# EAGLE library part ISO7221 (library mylib)
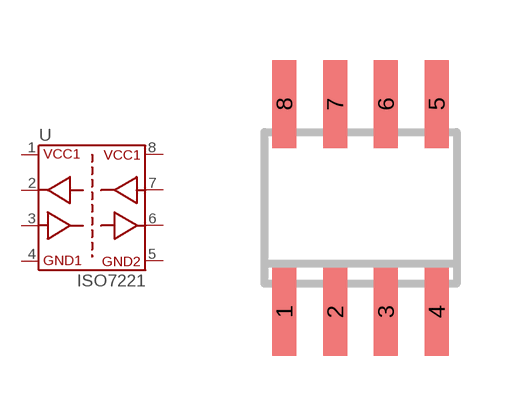
[diagram p16: symbol with the pads of SO8; footprint SO8]

Designator prefix -

## ISO7221  [SO8]
1  VCC1
2  OUTA
3  INB
4  GND1
5  GND2
6  OUTB
7  INA
8  VCC2

## Footprint SO8 (pad centres in mm)
smd 0.6 x 2.2: 1 -1.905,-2.6; 2 -0.635,-2.6; 3 0.635,-2.6; 4 1.905,-2.6; 5 1.905,2.6; 6 0.635,2.6; 7 -0.635,2.6; 8 -1.905,2.6